# EAGLE library part NUP4201 (library JLB6_smd)
Reseau diodes protection ESD 4 voies (NUP4201, DALC208)
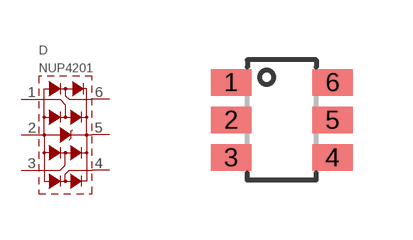
[diagram p1: symbol with the pads of SOT23-6; footprint SOT23-6]

Designator prefix D

## NUP4201  [SOT23-6]
1  A1  pas
2  VN  pas
3  A2  pas
4  A3  pas
5  VP  pas
6  A4  pas

## Footprint SOT23-6 (pad centres in mm)
smd 1.016 x 0.66: 1 -1.27,0.94; 2 -1.27,0; 3 -1.27,-0.94; 4 1.27,-0.94; 5 1.27,0; 6 1.27,0.94